# EAGLE library part L9110 (library esp8266)
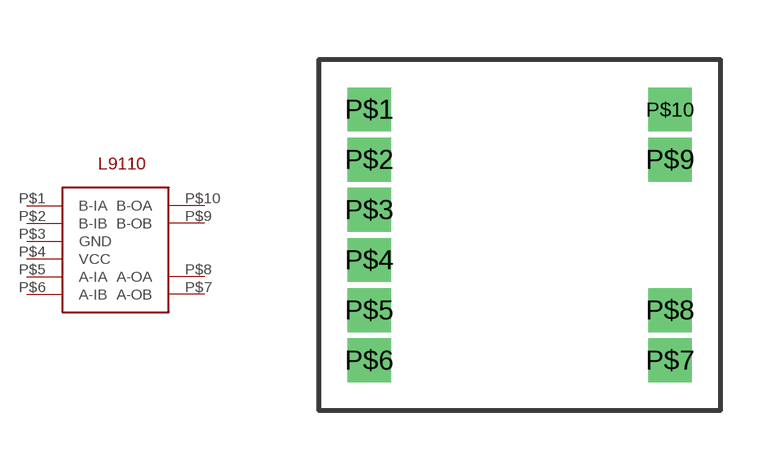
[diagram p1: symbol with the pads of L9110; footprint L9110]

Designator prefix IC

## L9110  [L9110]
P$1  B-IA  in
P$2  B-IB  in
P$3  GND  pwr
P$4  VCC  pwr
P$5  A-IA  in
P$6  A-IB  in
P$7  A-OB  out
P$8  A-OA  out
P$9  B-OB  out
P$10  B-OA  out

## Footprint L9110 (pad centres in mm)
drill 0.6 square: P$1 0,5.08; P$2 0,3.81; P$3 0,2.54; P$4 0,1.27; P$5 0,0; P$6 0,-1.27; P$7 7.62,-1.27; P$8 7.62,0; P$9 7.62,3.81; P$10 7.62,5.08